# Altium footprint library Mediatek.PcbLib: 3 footprints
Each footprint in its own frame and in the unit in brackets; x right, y up, seen from the top. Pads: shape width x height; smd on the part's side, far side on the other; paste and mask are expansions set on the pad; w line width, h text height; cw(c..) or ccw(c..) is an arc to the next point about the centre after c.
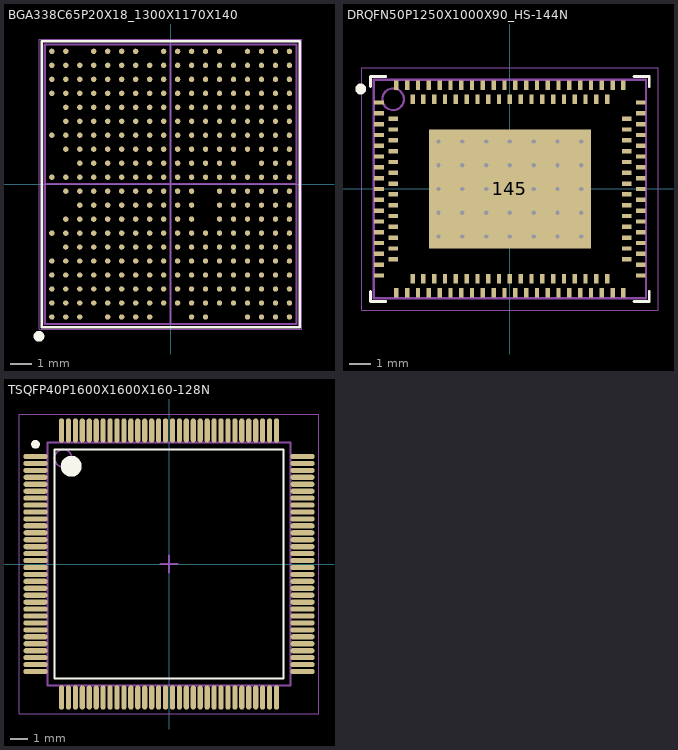
[diagram p0: the footprints below, top view; thin cyan lines are the x and y axes]

## BGA338C65P20X18_1300X1170X140 [mm] "BGA, 338-Leads, Body 13,00x11,70mmx1,40mm, Pitch 0,65mm"
height 1.4
pads (338):
  round 0.25 smd: A1(-5.525,-6.175) A2(-5.525,-5.525) A3(-5.525,-4.875) A4(-5.525,-4.225) A5(-5.525,-3.575) A7(-5.525,-2.275) A11(-5.525,0.325) A14(-5.525,2.275) A17(-5.525,4.225) A18(-5.525,4.875) A19(-5.525,5.525) A20(-5.525,6.175) B1(-4.875,-6.175) B2(-4.875,-5.525) B3(-4.875,-4.875) B4(-4.875,-4.225) B5(-4.875,-3.575) B6(-4.875,-2.925) B7(-4.875,-2.275) B8(-4.875,-1.625) B10(-4.875,-0.325) B11(-4.875,0.325) B13(-4.875,1.625) B14(-4.875,2.275) B15(-4.875,2.925) B16(-4.875,3.575) B17(-4.875,4.225) B18(-4.875,4.875) B19(-4.875,5.525) B20(-4.875,6.175) C1(-4.225,-6.175) C2(-4.225,-5.525) C3(-4.225,-4.875) C4(-4.225,-4.225) C5(-4.225,-3.575) C6(-4.225,-2.925) C7(-4.225,-2.275) C8(-4.225,-1.625) C9(-4.225,-0.975) C10(-4.225,-0.325) C11(-4.225,0.325) C12(-4.225,0.975) C13(-4.225,1.625) C14(-4.225,2.275) C15(-4.225,2.925) C16(-4.225,3.575) C17(-4.225,4.225) C18(-4.225,4.875) C19(-4.225,5.525) D2(-3.575,-5.525) D3(-3.575,-4.875) D4(-3.575,-4.225) D5(-3.575,-3.575) D6(-3.575,-2.925) D7(-3.575,-2.275) D8(-3.575,-1.625) D9(-3.575,-0.975) D10(-3.575,-0.325) D11(-3.575,0.325) D12(-3.575,0.975) D13(-3.575,1.625) D14(-3.575,2.275) D15(-3.575,2.925) D16(-3.575,3.575) D17(-3.575,4.225) D18(-3.575,4.875) D19(-3.575,5.525) D20(-3.575,6.175) E1(-2.925,-6.175) E2(-2.925,-5.525) E3(-2.925,-4.875) E4(-2.925,-4.225) E5(-2.925,-3.575) E6(-2.925,-2.925) E7(-2.925,-2.275) E8(-2.925,-1.625) E9(-2.925,-0.975) E10(-2.925,-0.325) E11(-2.925,0.325) E12(-2.925,0.975) E13(-2.925,1.625) E14(-2.925,2.275) E15(-2.925,2.925) E16(-2.925,3.575) E17(-2.925,4.225) E18(-2.925,4.875) E19(-2.925,5.525) E20(-2.925,6.175) F1(-2.275,-6.175) F2(-2.275,-5.525) F3(-2.275,-4.875) F4(-2.275,-4.225) F5(-2.275,-3.575) F6(-2.275,-2.925) F7(-2.275,-2.275) F8(-2.275,-1.625) F9(-2.275,-0.975) F10(-2.275,-0.325) F11(-2.275,0.325) F12(-2.275,0.975) F13(-2.275,1.625) F14(-2.275,2.275) F15(-2.275,2.925) F16(-2.275,3.575) F17(-2.275,4.225) F18(-2.275,4.875) F19(-2.275,5.525) F20(-2.275,6.175) G1(-1.625,-6.175) G2(-1.625,-5.525) G3(-1.625,-4.875) G4(-1.625,-4.225) G5(-1.625,-3.575) G6(-1.625,-2.925) G7(-1.625,-2.275) G8(-1.625,-1.625) G9(-1.625,-0.975) G10(-1.625,-0.325) G11(-1.625,0.325) G12(-1.625,0.975) G13(-1.625,1.625) G14(-1.625,2.275) G15(-1.625,2.925) G16(-1.625,3.575) G17(-1.625,4.225) G18(-1.625,4.875) G19(-1.625,5.525) G20(-1.625,6.175) H1(-0.975,-6.175) H2(-0.975,-5.525) H3(-0.975,-4.875) H4(-0.975,-4.225) H5(-0.975,-3.575) H6(-0.975,-2.925) H7(-0.975,-2.275) H8(-0.975,-1.625) H9(-0.975,-0.975) H10(-0.975,-0.325) H11(-0.975,0.325) H12(-0.975,0.975) H13(-0.975,1.625) H14(-0.975,2.275) H15(-0.975,2.925) H16(-0.975,3.575) H17(-0.975,4.225) H18(-0.975,4.875) H19(-0.975,5.525) J2(-0.325,-5.525) J3(-0.325,-4.875) J4(-0.325,-4.225) J5(-0.325,-3.575) J6(-0.325,-2.925) J7(-0.325,-2.275) J8(-0.325,-1.625) J9(-0.325,-0.975) J10(-0.325,-0.325) J11(-0.325,0.325) J12(-0.325,0.975) J13(-0.325,1.625) J14(-0.325,2.275) J15(-0.325,2.925) J16(-0.325,3.575) J17(-0.325,4.225) J18(-0.325,4.875) J19(-0.325,5.525) J20(-0.325,6.175) K2(0.325,-5.525) K3(0.325,-4.875) K4(0.325,-4.225) K5(0.325,-3.575) K6(0.325,-2.925) K7(0.325,-2.275) K8(0.325,-1.625) K9(0.325,-0.975) K10(0.325,-0.325) K11(0.325,0.325) K12(0.325,0.975) K13(0.325,1.625) K14(0.325,2.275) K15(0.325,2.925) K16(0.325,3.575) K17(0.325,4.225) K18(0.325,4.875) K19(0.325,5.525) K20(0.325,6.175) L1(0.975,-6.175) L2(0.975,-5.525) L3(0.975,-4.875) L4(0.975,-4.225) L5(0.975,-3.575) L6(0.975,-2.925) L7(0.975,-2.275) L8(0.975,-1.625) L9(0.975,-0.975) L10(0.975,-0.325) L11(0.975,0.325) L12(0.975,0.975) L13(0.975,1.625) L14(0.975,2.275) L15(0.975,2.925) L16(0.975,3.575) L17(0.975,4.225) L18(0.975,4.875) L19(0.975,5.525) L20(0.975,6.175) M1(1.625,-6.175) M2(1.625,-5.525) M3(1.625,-4.875) M4(1.625,-4.225) M5(1.625,-3.575) M6(1.625,-2.925) M7(1.625,-2.275) M11(1.625,0.325) M12(1.625,0.975) M13(1.625,1.625) M14(1.625,2.275) M15(1.625,2.925) M16(1.625,3.575) M17(1.625,4.225) M18(1.625,4.875) M19(1.625,5.525) M20(1.625,6.175) N2(2.275,-5.525) N3(2.275,-4.875) N4(2.275,-4.225) N5(2.275,-3.575) N6(2.275,-2.925) N7(2.275,-2.275) N8(2.275,-1.625) N9(2.275,-0.975) N10(2.275,-0.325) N11(2.275,0.325) N12(2.275,0.975) N13(2.275,1.625) N14(2.275,2.275) N15(2.275,2.925) N16(2.275,3.575) N17(2.275,4.225) N18(2.275,4.875) N19(2.275,5.525) N20(2.275,6.175) P2(2.925,-5.525) P3(2.925,-4.875) P4(2.925,-4.225) P5(2.925,-3.575) P6(2.925,-2.925) P7(2.925,-2.275) P8(2.925,-1.625) P9(2.925,-0.975) P10(2.925,-0.325) P11(2.925,0.325) P12(2.925,0.975) P13(2.925,1.625) P14(2.925,2.275) P15(2.925,2.925) P16(2.925,3.575) P17(2.925,4.225) P18(2.925,4.875) P19(2.925,5.525) R1(3.575,-6.175) R2(3.575,-5.525) R3(3.575,-4.875) R4(3.575,-4.225) R5(3.575,-3.575) R6(3.575,-2.925) R7(3.575,-2.275) R8(3.575,-1.625) R9(3.575,-0.975) R10(3.575,-0.325) R11(3.575,0.325) R13(3.575,1.625) R14(3.575,2.275) R15(3.575,2.925) R16(3.575,3.575) R17(3.575,4.225) R18(3.575,4.875) R19(3.575,5.525) R20(3.575,6.175) T1(4.225,-6.175) T2(4.225,-5.525) T3(4.225,-4.875) T4(4.225,-4.225) T5(4.225,-3.575) T6(4.225,-2.925) T7(4.225,-2.275) T8(4.225,-1.625) T9(4.225,-0.975) T10(4.225,-0.325) T11(4.225,0.325) T12(4.225,0.975) T13(4.225,1.625) T14(4.225,2.275) T15(4.225,2.925) T16(4.225,3.575) T17(4.225,4.225) T18(4.225,4.875) T19(4.225,5.525) T20(4.225,6.175) U1(4.875,-6.175) U2(4.875,-5.525) U3(4.875,-4.875) U4(4.875,-4.225) U5(4.875,-3.575) U6(4.875,-2.925) U7(4.875,-2.275) U8(4.875,-1.625) U9(4.875,-0.975) U10(4.875,-0.325) U11(4.875,0.325) U12(4.875,0.975) U13(4.875,1.625) U14(4.875,2.275) U15(4.875,2.925) U16(4.875,3.575) U17(4.875,4.225) U18(4.875,4.875) U19(4.875,5.525) U20(4.875,6.175) V1(5.525,-6.175) V2(5.525,-5.525) V3(5.525,-4.875) V4(5.525,-4.225) V5(5.525,-3.575) V6(5.525,-2.925) V7(5.525,-2.275) V8(5.525,-1.625) V9(5.525,-0.975) V10(5.525,-0.325) V11(5.525,0.325) V12(5.525,0.975) V13(5.525,1.625) V14(5.525,2.275) V15(5.525,2.925) V16(5.525,3.575) V17(5.525,4.225) V18(5.525,4.875) V19(5.525,5.525) V20(5.525,6.175)
Top Overlay:
  circle w0.25: c-6.125,-7.075 r0.125
  lines w0.12: -6,-6.65 -6,6.65 6,6.65 6,-6.65 -6,-6.65
Mechanical 13:
  lines w0.1: -5.85,-6.5 5.85,-6.5 5.85,6.5 -5.85,6.5 -5.85,-6.5
Mechanical 15:
  lines w0.05: -6.1,-6.75 6.1,-6.75 6.1,6.75 -6.1,6.75 -6.1,-6.75
  lines w0.1: -5.842,0 5.842,0 ; 0,-6.477 0,6.477
3D body "BGA338C65P20X18_1300X1170X120.step": height 1.2, standoff 0, extent -5.85,-6.5 5.85,6.5

## DRQFN50P1250X1000X90_HS-144N [mm]
height 0.9
pads (145):
  rect 0.45x0.2 smd mask+0.05: 1(-6.05,4) 2(-6.05,3.5) 3(-5.4,3.25) 4(-6.05,3) 5(-5.4,2.75) 6(-6.05,2.5) 7(-5.4,2.25) 8(-6.05,2) 9(-5.4,1.75) 10(-6.05,1.5) 11(-5.4,1.25) 12(-6.05,1) 13(-5.4,0.75) 14(-6.05,0.5) 15(-5.4,0.25) 16(-6.05,0) 17(-5.4,-0.25) 18(-6.05,-0.5) 19(-5.4,-0.75) 20(-6.05,-1) 21(-5.4,-1.25) 22(-6.05,-1.5) 23(-5.4,-1.75) 24(-6.05,-2) 25(-5.4,-2.25) 26(-6.05,-2.5) 27(-5.4,-2.75) 28(-6.05,-3) 29(-5.4,-3.25) 30(-6.05,-3.5) 31(-6.05,-4) 73(6.05,-4) 74(6.05,-3.5) 75(5.4,-3.25) 76(6.05,-3) 77(5.4,-2.75) 78(6.05,-2.5) 79(5.4,-2.25) 80(6.05,-2) 81(5.4,-1.75) 82(6.05,-1.5) 83(5.4,-1.25) 84(6.05,-1) 85(5.4,-0.75) 86(6.05,-0.5) 87(5.4,-0.25) 88(6.05,0) 89(5.4,0.25) 90(6.05,0.5) 91(5.4,0.75) 92(6.05,1) 93(5.4,1.25) 94(6.05,1.5) 95(5.4,1.75) 96(6.05,2) 97(5.4,2.25) 98(6.05,2.5) 99(5.4,2.75) 100(6.05,3) 101(5.4,3.25) 102(6.05,3.5) 103(6.05,4)
  rect 0.2x0.45 smd mask+0.05: 32(-5.25,-4.8) 33(-4.75,-4.8) 34(-4.5,-4.15) 35(-4.25,-4.8) 36(-4,-4.15) 37(-3.75,-4.8) 38(-3.5,-4.15) 39(-3.25,-4.8) 40(-3,-4.15) 41(-2.75,-4.8) 42(-2.5,-4.15) 43(-2.25,-4.8) 44(-2,-4.15) 45(-1.75,-4.8) 46(-1.5,-4.15) 47(-1.25,-4.8) 48(-1,-4.15) 49(-0.75,-4.8) 50(-0.5,-4.15) 51(-0.25,-4.8) 52(0,-4.15) 53(0.25,-4.8) 54(0.5,-4.15) 55(0.75,-4.8) 56(1,-4.15) 57(1.25,-4.8) 58(1.5,-4.15) 59(1.75,-4.8) 60(2,-4.15) 61(2.25,-4.8) 62(2.5,-4.15) 63(2.75,-4.8) 64(3,-4.15) 65(3.25,-4.8) 66(3.5,-4.15) 67(3.75,-4.8) 68(4,-4.15) 69(4.25,-4.8) 70(4.5,-4.15) 71(4.75,-4.8) 72(5.25,-4.8) 104(5.25,4.8) 105(4.75,4.8) 106(4.5,4.15) 107(4.25,4.8) 108(4,4.15) 109(3.75,4.8) 110(3.5,4.15) 111(3.25,4.8) 112(3,4.15) 113(2.75,4.8) 114(2.5,4.15) 115(2.25,4.8) 116(2,4.15) 117(1.75,4.8) 118(1.5,4.15) 119(1.25,4.8) 120(1,4.15) 121(0.75,4.8) 122(0.5,4.15) 123(0.25,4.8) 124(0,4.15) 125(-0.25,4.8) 126(-0.5,4.15) 127(-0.75,4.8) 128(-1,4.15) 129(-1.25,4.8) 130(-1.5,4.15) 131(-1.75,4.8) 132(-2,4.15) 133(-2.25,4.8) 134(-2.5,4.15) 135(-2.75,4.8) 136(-3,4.15) 137(-3.25,4.8) 138(-3.5,4.15) 139(-3.75,4.8) 140(-4,4.15) 141(-4.25,4.8) 142(-4.5,4.15) 143(-4.75,4.8) 144(-5.25,4.8)
  rect 7.5x5.5 smd: 145(0,0)
via 3.3,-2.2 diameter 0.5 hole 0.2
via 2.2,-2.2 diameter 0.5 hole 0.2
via 1.1,-2.2 diameter 0.5 hole 0.2
via 0,-2.2 diameter 0.5 hole 0.2
via -1.1,-2.2 diameter 0.5 hole 0.2
via -2.2,-2.2 diameter 0.5 hole 0.2
via -3.3,-2.2 diameter 0.5 hole 0.2
via 3.3,-1.1 diameter 0.5 hole 0.2
via 2.2,-1.1 diameter 0.5 hole 0.2
via 1.1,-1.1 diameter 0.5 hole 0.2
via 0,-1.1 diameter 0.5 hole 0.2
via -1.1,-1.1 diameter 0.5 hole 0.2
via -2.2,-1.1 diameter 0.5 hole 0.2
via -3.3,-1.1 diameter 0.5 hole 0.2
via 3.3,0 diameter 0.5 hole 0.2
via 2.2,0 diameter 0.5 hole 0.2
via 1.1,0 diameter 0.5 hole 0.2
via 0,0 diameter 0.5 hole 0.2
via -1.1,0 diameter 0.5 hole 0.2
via -2.2,0 diameter 0.5 hole 0.2
via -3.3,0 diameter 0.5 hole 0.2
via 3.3,1.1 diameter 0.5 hole 0.2
via 2.2,1.1 diameter 0.5 hole 0.2
via 1.1,1.1 diameter 0.5 hole 0.2
via 0,1.1 diameter 0.5 hole 0.2
via -1.1,1.1 diameter 0.5 hole 0.2
via -2.2,1.1 diameter 0.5 hole 0.2
via -3.3,1.1 diameter 0.5 hole 0.2
via 3.3,2.2 diameter 0.5 hole 0.2
via 2.2,2.2 diameter 0.5 hole 0.2
via 1.1,2.2 diameter 0.5 hole 0.2
via 0,2.2 diameter 0.5 hole 0.2
via -1.1,2.2 diameter 0.5 hole 0.2
via -2.2,2.2 diameter 0.5 hole 0.2
via -3.3,2.2 diameter 0.5 hole 0.2
Top Overlay:
  circle w0.25: c-6.9,4.625 r0.125
  lines w0.127: -6.45,-4.739 -6.45,-5.2 -5.739,-5.2 ; -6.45,4.738 -6.45,5.2 -5.739,5.2 ; 5.739,-5.2 6.45,-5.2 6.45,-4.739 ; 5.739,5.2 6.45,5.2 6.45,4.738
Mechanical 13:
  circle w0.1: c-5.4,4.15 r0.5
  lines w0.1: -6.3,-5.05 6.3,-5.05 6.3,5.05 -6.3,5.05 -6.3,-5.05
Mechanical 15:
  lines w0.05: -6.85,-5.6 6.85,-5.6 6.85,5.6 -6.85,5.6 -6.85,-5.6
  lines w0.1: -0.5,0 0.5,0 ; 0,-0.5 0,0.5
3D body "QFN50P1250X1000X90_HS-81N.step": height 0.9, standoff 0, extent -6.301,-5.051 6.301,5.051

## TSQFP40P1600X1600X160-128N [mm] "TSQFP, 128-Leads, Body 14,00x14,00mm, Pitch 0,40mm, IPC Medium Density"
height 1.6
pads (128):
  oval 1.4x0.3 smd: 1(-7.7,6.2) 2(-7.7,5.8) 3(-7.7,5.4) 4(-7.7,5) 5(-7.7,4.6) 6(-7.7,4.2) 7(-7.7,3.8) 8(-7.7,3.4) 9(-7.7,3) 10(-7.7,2.6) 11(-7.7,2.2) 12(-7.7,1.8) 13(-7.7,1.4) 14(-7.7,1) 15(-7.7,0.6) 16(-7.7,0.2) 17(-7.7,-0.2) 18(-7.7,-0.6) 19(-7.7,-1) 20(-7.7,-1.4) 21(-7.7,-1.8) 22(-7.7,-2.2) 23(-7.7,-2.6) 24(-7.7,-3) 25(-7.7,-3.4) 26(-7.7,-3.8) 27(-7.7,-4.2) 28(-7.7,-4.6) 29(-7.7,-5) 30(-7.7,-5.4) 31(-7.7,-5.8) 32(-7.7,-6.2) 65(7.7,-6.2) 66(7.7,-5.8) 67(7.7,-5.4) 68(7.7,-5) 69(7.7,-4.6) 70(7.7,-4.2) 71(7.7,-3.8) 72(7.7,-3.4) 73(7.7,-3) 74(7.7,-2.6) 75(7.7,-2.2) 76(7.7,-1.8) 77(7.7,-1.4) 78(7.7,-1) 79(7.7,-0.6) 80(7.7,-0.2) 81(7.7,0.2) 82(7.7,0.6) 83(7.7,1) 84(7.7,1.4) 85(7.7,1.8) 86(7.7,2.2) 87(7.7,2.6) 88(7.7,3) 89(7.7,3.4) 90(7.7,3.8) 91(7.7,4.2) 92(7.7,4.6) 93(7.7,5) 94(7.7,5.4) 95(7.7,5.8) 96(7.7,6.2)
  oval 0.3x1.4 smd: 33(-6.2,-7.7) 34(-5.8,-7.7) 35(-5.4,-7.7) 36(-5,-7.7) 37(-4.6,-7.7) 38(-4.2,-7.7) 39(-3.8,-7.7) 40(-3.4,-7.7) 41(-3,-7.7) 42(-2.6,-7.7) 43(-2.2,-7.7) 44(-1.8,-7.7) 45(-1.4,-7.7) 46(-1,-7.7) 47(-0.6,-7.7) 48(-0.2,-7.7) 49(0.2,-7.7) 50(0.6,-7.7) 51(1,-7.7) 52(1.4,-7.7) 53(1.8,-7.7) 54(2.2,-7.7) 55(2.6,-7.7) 56(3,-7.7) 57(3.4,-7.7) 58(3.8,-7.7) 59(4.2,-7.7) 60(4.6,-7.7) 61(5,-7.7) 62(5.4,-7.7) 63(5.8,-7.7) 64(6.2,-7.7) 97(6.2,7.7) 98(5.8,7.7) 99(5.4,7.7) 100(5,7.7) 101(4.6,7.7) 102(4.2,7.7) 103(3.8,7.7) 104(3.4,7.7) 105(3,7.7) 106(2.6,7.7) 107(2.2,7.7) 108(1.8,7.7) 109(1.4,7.7) 110(1,7.7) 111(0.6,7.7) 112(0.2,7.7) 113(-0.2,7.7) 114(-0.6,7.7) 115(-1,7.7) 116(-1.4,7.7) 117(-1.8,7.7) 118(-2.2,7.7) 119(-2.6,7.7) 120(-3,7.7) 121(-3.4,7.7) 122(-3.8,7.7) 123(-4.2,7.7) 124(-4.6,7.7) 125(-5,7.7) 126(-5.4,7.7) 127(-5.8,7.7) 128(-6.2,7.7)
Top Overlay:
  circle w0.25: c-7.7,6.9 r0.125
  circle w0.6: c-5.636,5.636 r0.3
  lines w0.127: -6.6,-6.6 -6.6,6.6 6.6,6.6 6.6,-6.6 -6.6,-6.6
Mechanical 13:
  circle w0.1: c-6.1,6.1 r0.5
  lines w0.1: -7,-7 -7,7 7,7 7,-7 -7,-7
Mechanical 15:
  lines w0.05: -8.65,-8.65 -8.65,8.65 8.65,8.65 8.65,-8.65 -8.65,-8.65
  lines w0.1: -0.5,0 0.5,0 ; 0,-0.5 0,0.5
3D body "TSQFP40P1600X1600X160-128N.step": height 1.6, standoff 0, extent -8,-8 8,8